# Altium schematic symbol library Inductors.SchLib: 31 symbols
Pins are listed as number, name and electrical type; pins without a type are passive.

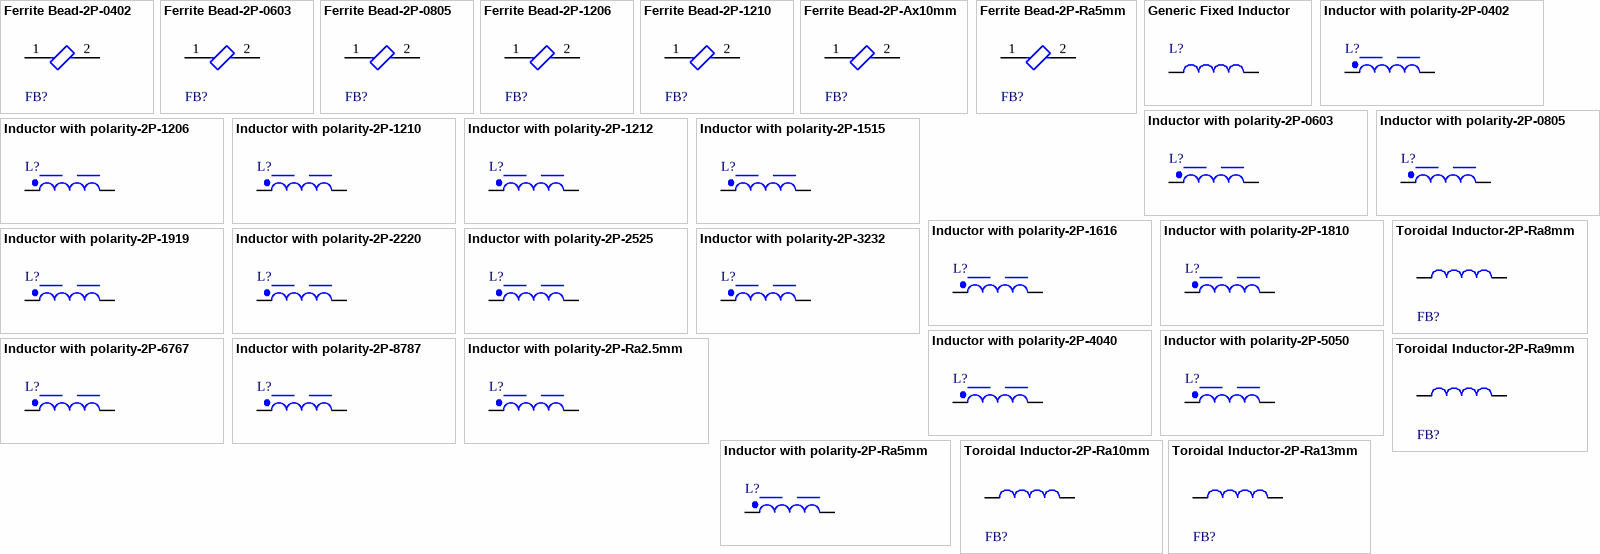
[diagram p0: symbols Ferrite Bead-2P-0402 to Toroidal Inductor-2P-Ra13mm]

## Ferrite Bead-2P-0402
designator FB?
footprint Chip_Ferrite_Bead_0402-A
footprint Chip_Ferrite_Bead_0402-B
footprint Chip_Ferrite_Bead_0402-C
footprint Chip_Ferrite_Bead_0402-MFG
pins: 1, 2

## Ferrite Bead-2P-0603
designator FB?
footprint Chip_Ferrite_Bead_0603-A
footprint Chip_Ferrite_Bead_0603-B
footprint Chip_Ferrite_Bead_0603-C
footprint Chip_Ferrite_Bead_0603-MFG
pins: 1, 2

## Ferrite Bead-2P-0805
designator FB?
footprint Chip_Ferrite_Bead_0805-A
footprint Chip_Ferrite_Bead_0805-B
footprint Chip_Ferrite_Bead_0805-C
footprint Chip_Ferrite_Bead_0805-MFG
pins: 1, 2

## Ferrite Bead-2P-1206
designator FB?
footprint Chip_Ferrite_Bead_1206-A
footprint Chip_Ferrite_Bead_1206-B
footprint Chip_Ferrite_Bead_1206-C
footprint Chip_Ferrite_Bead_1206-MFG
pins: 1, 2

## Ferrite Bead-2P-1210
designator FB?
footprint Chip_Ferrite_Bead_1210-A
footprint Chip_Ferrite_Bead_1210-B
footprint Chip_Ferrite_Bead_1210-C
footprint Chip_Ferrite_Bead_1210-MFG
pins: 1, 2

## Ferrite Bead-2P-Ax10mm
designator FB?
footprint Ferrite_Bead_Axial_10mm
pins: 1, 2

## Ferrite Bead-2P-Ra5mm
designator FB?
footprint Ferrite_Bead_Radial_5mm_1
footprint Ferrite_Bead_Radial_5mm_2
footprint Ferrite_Bead_Radial_5mm_3 (EMI Suppression 6-Hole Ferrite Bead, body diameter 6mm)
pins: 1, 2

## Generic Fixed Inductor
designator L?
pins: 1, 2

## Inductor with polarity-2P-0402
designator L?
footprint Chip_Inductor_0402-A
footprint Chip_Inductor_0402-B
footprint Chip_Inductor_0402-C
footprint Chip_Inductor_0402-MFG
pins: 1, 2

## Inductor with polarity-2P-0603
designator L?
footprint Chip_Inductor_0603-A
footprint Chip_Inductor_0603-B
footprint Chip_Inductor_0603-C
footprint Chip_Inductor_0603-MFG
pins: 1, 2

## Inductor with polarity-2P-0805
designator L?
footprint Chip_Inductor_0805-A
footprint Chip_Inductor_0805-B
footprint Chip_Inductor_0805-C
footprint Chip_Inductor_0805-MFG
footprint Chip_Inductor_0805-MFG_RF1
footprint Chip_Inductor_0805-MFG_RF2
pins: 1, 2

## Inductor with polarity-2P-1206
designator L?
footprint Chip_Inductor_1206-A
footprint Chip_Inductor_1206-B
footprint Chip_Inductor_1206-C
footprint Chip_Inductor_1206-MFG
footprint Chip_Inductor_1206-MFG1
footprint Chip_Inductor_1206-MFG2
pins: 1, 2

## Inductor with polarity-2P-1210
designator L?
footprint Chip_Inductor_1210-A
footprint Chip_Inductor_1210-B
footprint Chip_Inductor_1210-C
footprint Chip_Inductor_1210-MFG
footprint Chip_Inductor_1210-MFG1
pins: 1, 2

## Inductor with polarity-2P-1212
designator L?
footprint Shielded_Power_Inductor_1212
pins: 1, 2

## Inductor with polarity-2P-1515
designator L?
footprint Shielded_Power_Inductor_1515
pins: 1, 2

## Inductor with polarity-2P-1616
designator L?
footprint Shielded_Power_Inductor_1616
pins: 1, 2

## Inductor with polarity-2P-1810
designator L?
footprint Chip_Inductor_1810-MFG
pins: 1, 2

## Inductor with polarity-2P-1919
designator L?
footprint Shielded_Power_Inductor_1919
pins: 1, 2

## Inductor with polarity-2P-2220
designator L?
footprint Chip_Inductor_2220-MFG
pins: 1, 2

## Inductor with polarity-2P-2525
designator L?
footprint Shielded_Power_Inductor_2525
footprint Shielded_Power_Inductor_SMD_7.3x7.3
pins: 1, 2

## Inductor with polarity-2P-3232
designator L?
footprint Shielded_Power_Inductor_3232
pins: 1, 2

## Inductor with polarity-2P-4040
designator L?
footprint Shielded_Power_Inductor_4040
footprint Shielded_Power_Inductor_SMD_10.2x10.2
pins: 1, 2

## Inductor with polarity-2P-5050
designator L?
footprint Shielded_Power_Inductor_5050
footprint Shielded_Power_Inductor_SMD_12x12
pins: 1, 2

## Inductor with polarity-2P-6767
designator L?
footprint Shielded_Power_Inductor_6767
pins: 1, 2

## Inductor with polarity-2P-8787
designator L?
footprint Shielded_Power_Inductor_SMD_22x22.5
pins: 1, 2

## Inductor with polarity-2P-Ra2.5mm
designator L?
footprint Wire_Wound_Inductor_Radial_2.5mm_6
pins: 1, 2

## Inductor with polarity-2P-Ra5mm
designator L?
footprint Wire_Wound_Inductor_Radial_5mm_10
pins: 1, 2

## Toroidal Inductor-2P-Ra8mm
designator FB?
footprint Ferrite_Toroidal_Inductor_Radial_8mm_19x11
pins: 1, 2

## Toroidal Inductor-2P-Ra9mm
designator FB?
footprint Ferrite_Toroidal_Inductor_Radial_9mm_21x11
pins: 1, 2

## Toroidal Inductor-2P-Ra10mm
designator FB?
footprint Ferrite_Toroidal_Inductor_Radial_10mm_28x12
pins: 1, 2

## Toroidal Inductor-2P-Ra13mm
designator FB?
footprint Ferrite_Toroidal_Inductor_Radial_13mm_30x15
pins: 1, 2